# Altium schematic symbol library Zad1.SchLib: 6 symbols
Pins are listed as number, name and electrical type; pins without a type are passive.

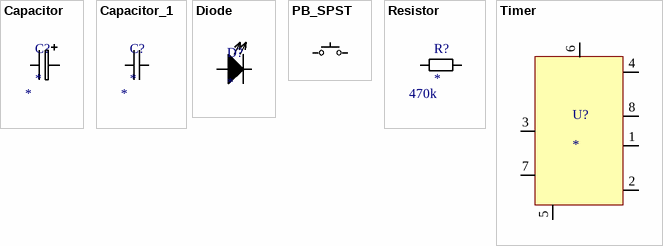
[diagram p0: symbols Capacitor to Timer]

## Capacitor
designator C?
Parameter 1: *
pins: 1 0, 2 0

## Capacitor_1
designator C?
Parameter 1: *
footprint 0402_CAP
footprint 0603_CAP
pins: 1 0, 2 0

## Diode
designator D?
pins: 1, 2

## PB_SPST
designator PB_SPST  (value not drawn)
pins: 1, 2

## Resistor
designator R?  Parameter 1: 470k
footprint 0402_RES
footprint 0603_RES
pins: 1, 2

## Timer
designator U?
pins: 1 0, 2 0, 3 0, 4 0, 5 0, 6 0, 7 0, 8 0